# Altium integrated library LASERDIODE-2.IntLib: 1 symbol
Pins are listed as number, name and electrical type; pins without a type are passive.

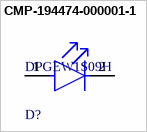
[diagram p0: symbol CMP-194474-000001-1]

## CMP-194474-000001-1
designator D?, comment DPGEW1S09H
LASER DIODE 905NM 45.0W RADIAL; Manufacturer: Excelitas Technologies; Output Power: 45W; Forward Voltage: 8V; Forward Current: 30A; Package: DPGEW1S09H; ComponentLink2Description: Datasheet; Device Class L2: Laser Products; Manufacturer Part Number: DPGEW1S09H; Device Class L3: unset; Temperature Range High: +85°C; Temperature: -55°C to +85°C; Device Class L1: Optoelectronics; Digikey Description: LASER DIODE 905NM 45.0W RADIAL; Automotive: No; Height: 4.27mm; ComponentLink2URL: http://www.excelitas.com/downloads/DTS_Multi_active_PGEW_series.pdf; RoHS: TRUE; Lead Free: Yes; Temperature Range Low: -55°C; Category: Diode; Octopart: https://octopart.com/dpgew1s09h-excelitas+technology-47044361
footprint FP-DPGEW1S09H-MFG
pins: 1 A, 2 C